# Altium schematic symbol library MTS-1132.SchLib: 1 symbol
Pins are listed as number, name and electrical type; pins without a type are passive.

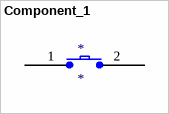
[diagram p0: symbol Component_1]

## Component_1
designator *
footprint MTS-1132
pins: 1, 2